# Altium schematic symbol library MAU2XX.SchLib: 1 symbol
Pins are listed as number, name and electrical type; pins without a type are passive.

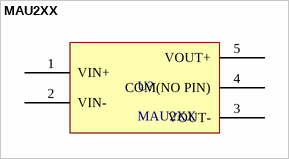
[diagram p0: symbol MAU2XX]

## MAU2XX
designator U?
footprint MAU2XX
pins: 1 VIN+, 2 VIN-, 3 VOUT-, 4 COM(NO PIN), 5 VOUT+